# EAGLE library part TSW-117-02-S-S (library con-samtec)
THROUGH-HOLE .025" SQ POST HEADER Source: Samtec TSW.pdf
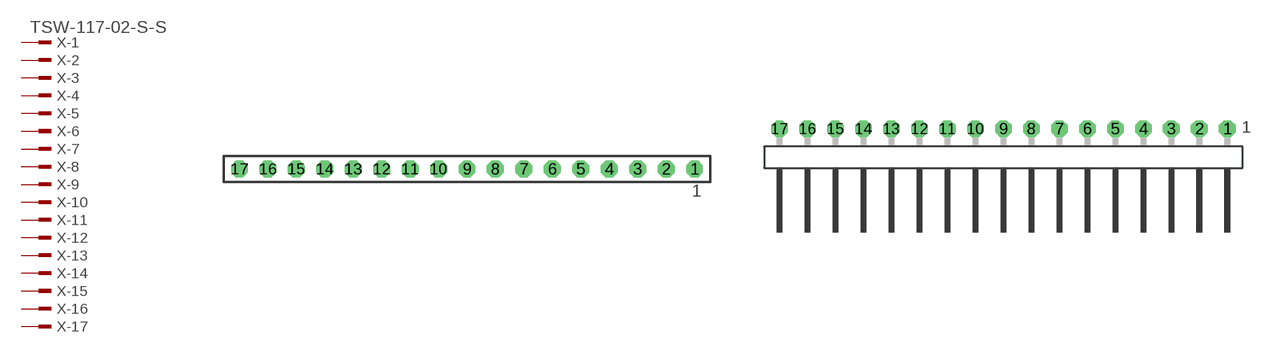
[diagram p229: symbol with the pads of TSW-117-02-S-S; footprints TSW-117-02-S-S, TSW-117-02-S-S-RA]

Designator prefix X; gates -1=MPINV -2=MPIN -3=MPIN -4=MPIN -5=MPIN -6=MPIN -7=MPIN -8=MPIN -9=MPIN -10=MPIN -11=MPIN -12=MPIN -13=MPIN -14=MPIN -15=MPIN -16=MPIN -17=MPIN

## TSW-117-02-S-S  [TSW-117-02-S-S]
1  -1:1  pas
2  -2:1  pas
3  -3:1  pas
4  -4:1  pas
5  -5:1  pas
6  -6:1  pas
7  -7:1  pas
8  -8:1  pas
9  -9:1  pas
10  -10:1  pas
11  -11:1  pas
12  -12:1  pas
13  -13:1  pas
14  -14:1  pas
15  -15:1  pas
16  -16:1  pas
17  -17:1  pas

## TSW-117-02-S-S-RA  [TSW-117-02-S-S-RA]
Pads as for TSW-117-02-S-S

## Footprint TSW-117-02-S-S (pad centres in mm)
THROUGH-HOLE .025" SQ POST HEADER Source: Samtec TSW.pdf
drill 1 pad 1.5 octagon: 1 20.32,0; 2 17.78,0; 3 15.24,0; 4 12.7,0; 5 10.16,0; 6 7.62,0; 7 5.08,0; 8 2.54,0; 9 0,0; 10 -2.54,0; 11 -5.08,0; 12 -7.62,0; 13 -10.16,0; 14 -12.7,0; 15 -15.24,0; 16 -17.78,0; 17 -20.32,0

## Footprint TSW-117-02-S-S-RA (pad centres in mm)
THROUGH-HOLE .025" SQ POST HEADER Source: Samtec TSW.pdf
drill 1 pad 1.5 octagon: 1 20.32,1.524; 2 17.78,1.524; 3 15.24,1.524; 4 12.7,1.524; 5 10.16,1.524; 6 7.62,1.524; 7 5.08,1.524; 8 2.54,1.524; 9 0,1.524; 10 -2.54,1.524; 11 -5.08,1.524; 12 -7.62,1.524; 13 -10.16,1.524; 14 -12.7,1.524; 15 -15.24,1.524; 16 -17.78,1.524; 17 -20.32,1.524